# EAGLE library part ADS1260 (library Bauteile)
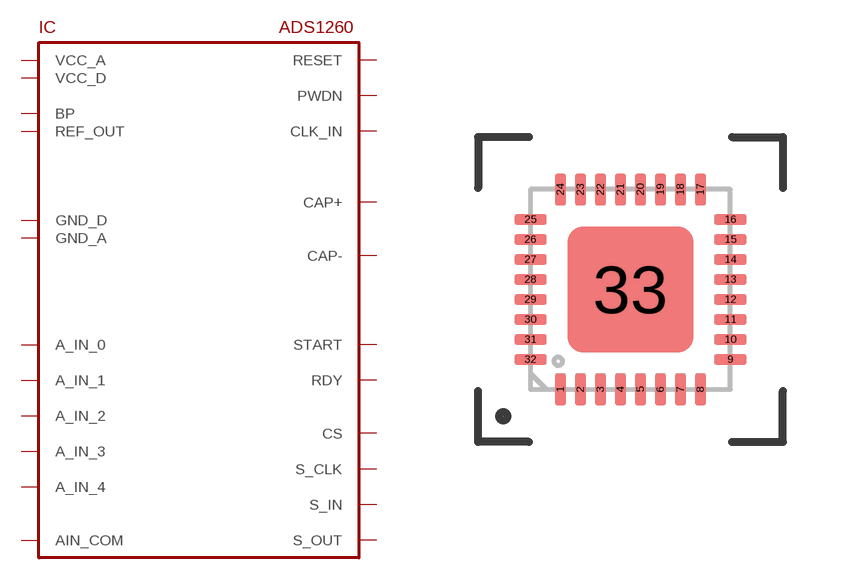
[diagram p39: symbol with the pads of QFN32-0.5; footprint QFN32-0.5]

Designator prefix IC

## ADS1260  [QFN32-0.5]
1  AIN_COM
2  CAP+
3  CAP-
4  VCC_A
5  GND_A
6  REF_OUT
7  PWDN
8  RESET
9  START
10  CS
11  S_CLK
12  S_IN
13  RDY
14  S_OUT
15  BP
16  GND_D
17  VCC_D
18  CLK_IN
28  A_IN_4
29  A_IN_3
30  A_IN_2
31  A_IN_1
32  A_IN_0
33  GND_A

## Footprint QFN32-0.5 (pad centres in mm)
smd 0.285 x 0.8: 1 -1.75,-2.5; 2 -1.25,-2.5; 3 -0.75,-2.5; 4 -0.25,-2.5; 5 0.25,-2.5; 6 0.75,-2.5; 7 1.25,-2.5; 8 1.75,-2.5; 17 1.75,2.5; 18 1.25,2.5; 19 0.75,2.5; 20 0.25,2.5; 21 -0.25,2.5; 22 -0.75,2.5; 23 -1.25,2.5; 24 -1.75,2.5
smd 0.8 x 0.285: 9 2.5,-1.75; 10 2.5,-1.25; 11 2.5,-0.75; 12 2.5,-0.25; 13 2.5,0.25; 14 2.5,0.75; 15 2.5,1.25; 16 2.5,1.75; 25 -2.5,1.75; 26 -2.5,1.25; 27 -2.5,0.75; 28 -2.5,0.25; 29 -2.5,-0.25; 30 -2.5,-0.75; 31 -2.5,-1.25; 32 -2.5,-1.75
smd 3.15 x 3.15: 33 0,0